# Altium schematic symbol library fader2_parts.SchLib: 112 symbols (part 2 of 2)
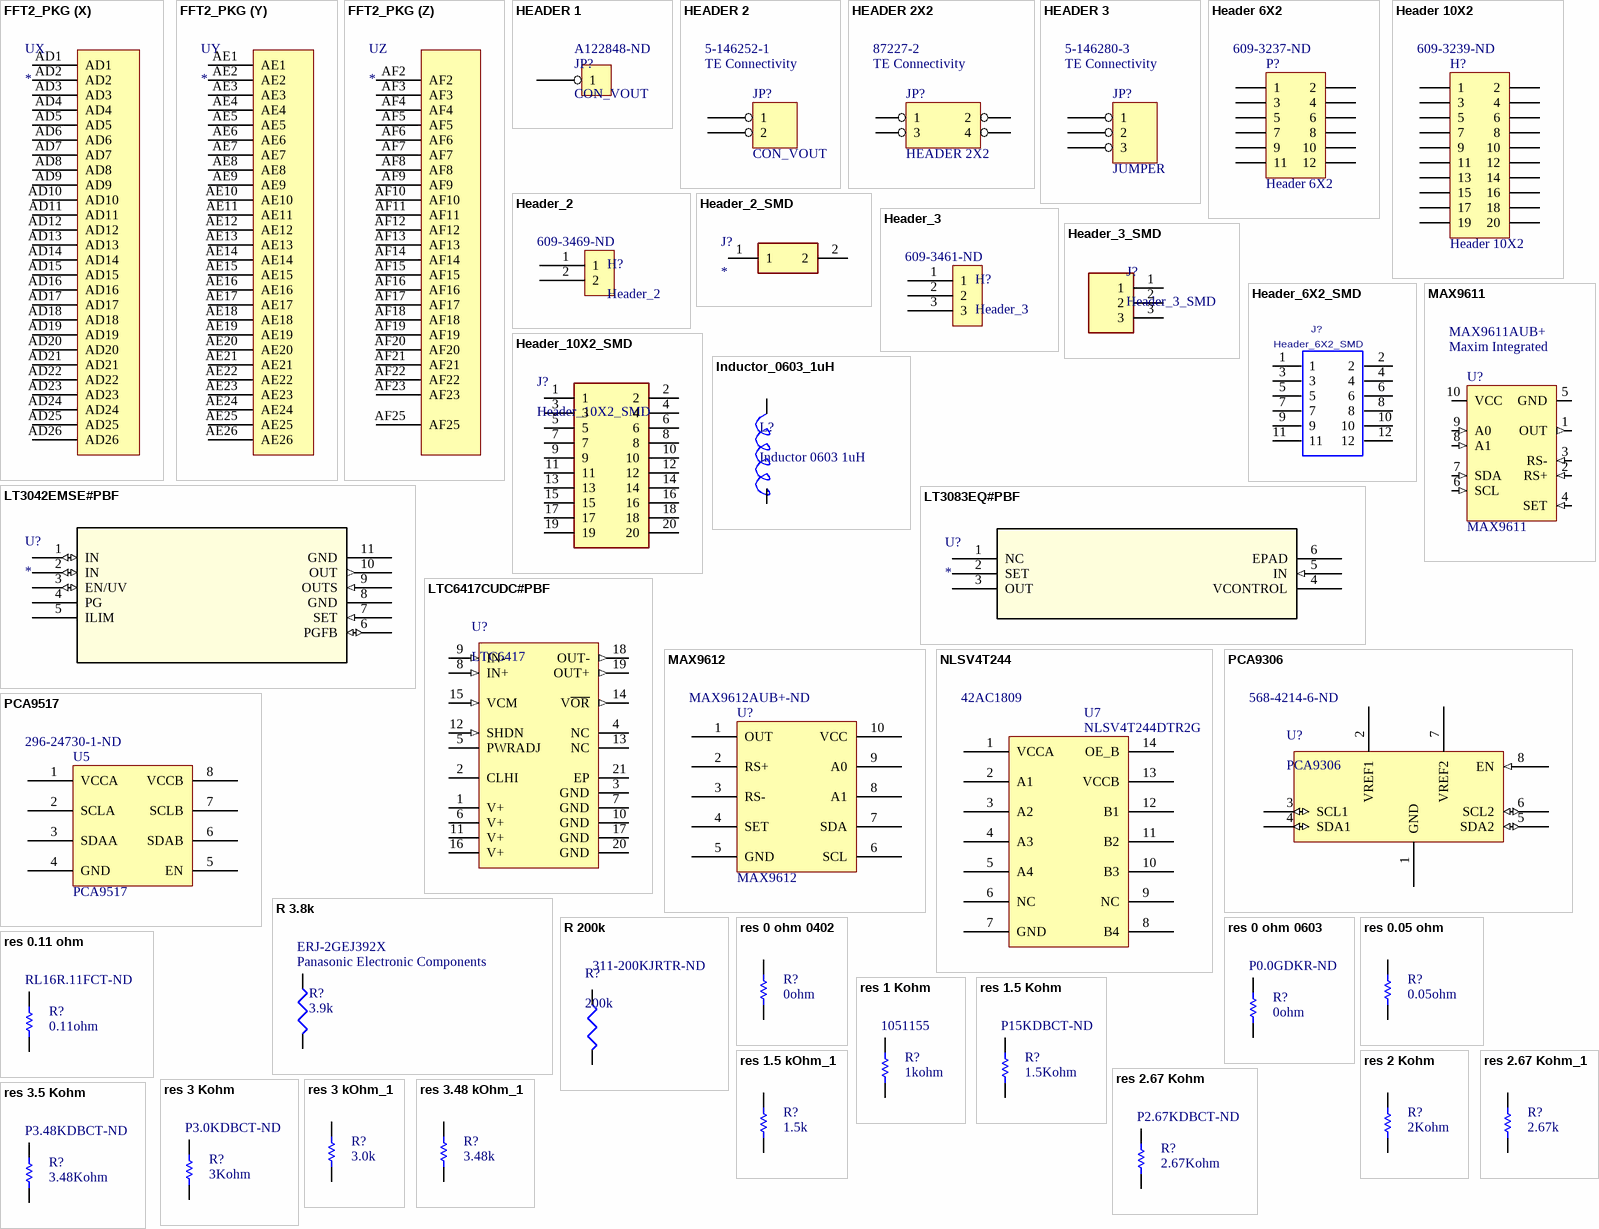
[diagram p9: symbols FFT2_PKG to res 3.48 kOhm_1]

## HEADER 2
designator JP?, comment CON_VOUT  Manufacturer: TE Connectivity  Manufacturer Part Number: 5-146252-1
CONN HEADR BRKWAY .100 2POS STR; Connector Type: Header, Unshrouded, Breakaway; Number of Positions: 2; Number of Positions Loaded: All; Pitch: 0.100" (2.54mm); Supplier 1: Digi-Key; RoHS: RoHS Compliant; Category: Connectors, Interconnects; Stock 1: 0; Pricing 1: 1=0.45, 10=0.421, 50=0.3068, 100=0.2948, 250=0.26472, 500=0.25268, 1000=0.21056, 2500=0.19251, 5000=0.18048 (USD); Packaging: Bulk; Contact Type: Male Pin; Number of Rows: 2; Row Spacing: 0.100" (2.54mm); Contact Mating Length: 0.318" (8.08mm); Mounting Type: Through Hole; Termination: Solder; Fastening Type: -; Features: -; Contact Finish: Gold; Contact Finish Thickness: 15µin (0.38µm); Color: Black; ComponentLink1URL: http://www.te.com/commerce/DocumentDelivery/DDEController?Action=srchrtrv&DocNm=146252&DocType=Customer+Drawing&DocLang=English; ComponentLink1Description: http://www.te.com/commerce/DocumentDelivery/DDEController?Action=srchrtrv&DocNm=146252&DocType=Customer+Drawing&DocLang=English; Supplier Part Number 1: A105225-ND
footprint SIP2
pins: 1, 2

## HEADER 2X2
designator JP?  Manufacturer: TE Connectivity  Manufacturer Part Number: 87227-2
CONN HEADER VERT .100 4POS 15AU; Connector Type: Header, Unshrouded; Number of Positions: 4; Number of Positions Loaded: All; Pitch: 0.100" (2.54mm); Supplier 1: Digi-Key; RoHS: RoHS Compliant; Category: Connectors, Interconnects; Stock 1: 1339; Pricing 1: 1=2.14, 10=1.938, 25=1.8196, 50=1.7406, 100=1.6615, 250=1.50324, 500=1.38456, 1000=1.18677, 2500=1.10765 (USD); Packaging: Bulk; Contact Type: Male Pin; Number of Rows: 2; Row Spacing: 0.100" (2.54mm); Contact Mating Length: 0.318" (8.08mm); Mounting Type: Through Hole; Termination: Solder; Fastening Type: -; Features: -; Contact Finish: Gold; Contact Finish Thickness: 15µin (0.38µm); Color: Black; ComponentLink1URL: http://www.te.com/commerce/DocumentDelivery/DDEController?Action=srchrtrv&DocNm=87227&DocType=Customer+Drawing&DocLang=English; ComponentLink1Description: http://www.te.com/commerce/DocumentDelivery/DDEController?Action=srchrtrv&DocNm=87227&DocType=Customer+Drawing&DocLang=English; Supplier Part Number 1: A26567-ND
footprint DPDT
pins: 1, 2, 3, 4

## HEADER 3
designator JP?, comment JUMPER  Manufacturer: TE Connectivity  Manufacturer Part Number: 5-146280-3
CONN HEADR BRKWAY .100 3POS STR; Connector Type: Header, Unshrouded, Breakaway; Number of Positions: 3; Number of Positions Loaded: All; Pitch: 0.100" (2.54mm); Supplier 1: Digi-Key; RoHS: RoHS Compliant; Category: Connectors, Interconnects; Stock 1: 6661; Pricing 1: 1=0.46, 10=0.436, 50=0.3172, 100=0.3049, 250=0.27376, 500=0.2613, 1000=0.21775, 2500=0.19909, 5000=0.18665 (USD); Packaging: Bulk; Contact Type: Male Pin; Number of Rows: 1; Row Spacing: -; Contact Mating Length: 0.230" (5.84mm); Mounting Type: Through Hole; Termination: Solder; Fastening Type: -; Features: -; Contact Finish: Gold; Contact Finish Thickness: 15µin (0.38µm); Color: Black; ComponentLink1URL: http://www.te.com/commerce/DocumentDelivery/DDEController?Action=srchrtrv&DocNm=146280&DocType=Customer+Drawing&DocLang=English; ComponentLink1Description: http://www.te.com/commerce/DocumentDelivery/DDEController?Action=srchrtrv&DocNm=146280&DocType=Customer+Drawing&DocLang=English; Supplier Part Number 1: 5-146280-3-ND
footprint SIP3
pins: 1, 2, 3

## Header 6X2
designator P?  Supplier Part Number 1: 609-3237-ND
Connector Header Vertical Dual Row, Through Hole 12 position 0.100" (2.54mm) Bergstik; Manufacturer: Amphenol FCI; Manufacturer ID: 67997-212HLF; Digikey ID: 609-3237-ND; Supplier 1: Digi-Key
footprint HDR2X6 (Connector; Header; 6x2 Position)
pins: 1, 2, 3, 4, 5, 6, 7, 8, 9, 10, 11, 12

## Header 10X2
designator H?  Supplier Part Number 1: 609-3239-ND
Connector Header Vertical Dual Row, Through Hole 20 position 0.100" (2.54mm) Bergstik; Manufacturer: Amphenol FCI; Manufacturer ID: 67997-220HLF; Digikey ID: 609-3239-ND; Supplier 1: Digi-Key
signal-integrity model Connector
footprint HDR2X10 (Connector; Header; 10x2 Position)
pins: 1, 2, 3, 4, 5, 6, 7, 8, 9, 10, 11, 12, 13, 14, 15, 16, 17, 18, 19, 20

## Header_2
designator H?  Supplier Part Number 1: 609-3469-ND
Connector Header Vertical, Through Hole 2 position 0.100" (2.54mm); Manufacturer: FCI; Manufacturer ID: 68001-202HLF; Digikey ID: 609-3469-ND; Supplier 1: Digi-Key
footprint HDR1X2 (Connector; Header; 2 Position)
pins: 1, 2

## Header_2_SMD
designator J?
Connector Header Vertical, SMD, 2 position 0.100" (2.54mm); Manufacturer_Name: SAMTEC; Manufacturer_Part_Number: TSM-102-01-S-SV; Datasheet Link: https://componentsearchengine.com/Datasheets/2/TSM-102-01-S-SV.pdf; Arrow Part Number: TSM-102-01-S-SV; Arrow Price/Stock: https://www.arrow.com/en/products/tsm-102-01-s-sv/samtec; Mouser Part Number: 200-TSM10201SSV; Mouser Price/Stock: https://www.mouser.co.uk/ProductDetail/Samtec/TSM-102-01-S-SV?qs=FESYatJ8odJNSemiJZ%2Fyzw%3D%3D; Supplier 1: Digi-Key; Supplier Part Number 1: SAM10783-ND
footprint HDR1X2_SMD_S
pins: 1, 2

## Header_3
designator H?  Supplier Part Number 1: 609-3461-ND
Connector Header Vertical, Through Hole 3 position 0.100" (2.54mm); Manufacturer: FCI; Manufacturer ID: 68000-103HLF; Digikey ID: 609-3461-ND; Supplier 1: Digi-Key
footprint HDR1X3 (Connector; Header; 3 Position)
pins: 1, 2, 3

## Header_3_SMD
designator J?
Connector Header Vertical, SMD, 3 position 0.100" (2.54mm); Manufacturer_Name: SAMTEC; Manufacturer_Part_Number: TSM-103-01-S-SV-P-TR; Datasheet Link: http://suddendocs.samtec.com/prints/tsm-1xx-xx-xxx-sv-xx-xxx-xx-mkt.pdf; Height: 11.17mm; Arrow Part Number: TSM-103-01-S-SV-P-TR; Arrow Price/Stock: https://www.arrow.com/en/products/tsm-103-01-s-sv-p-tr/samtec; Mouser Part Number: 200-TSM10301SSVPTR; Mouser Price/Stock: https://www.mouser.co.uk/ProductDetail/Samtec/TSM-103-01-S-SV-P-TR?qs=FESYatJ8odJI6Ns4akqicQ%3D%3D; Supplier 1: Newark; Supplier 2: Digi-Key; Supplier Part Number 1: 80K8300; Supplier Part Number 2: SAM13283CT-ND
footprint HDR1X3_SMD
pins: 1, 2, 3

## Header_6X2_SMD
designator J?
Connector Header Vertical Dual Row, SMD, 12 position 0.100" (2.54mm); MANUFACTURER: SAMTEC; PCB DECAL: TSM-106-XX-XXX-DV; CREATED: November 23, 2017 - Wendy Xin; Supplier 1: Digi-Key; Supplier Part Number 1: SAM10803-ND
footprint HDR2X6_SMD
pins: 1, 2, 3, 4, 5, 6, 7, 8, 9, 10, 11, 12

## Header_10X2_SMD
designator J?
Connector Header Vertical Dual Row, SMD, 20 position 0.100" (2.54mm); Manufacturer_Name: SAMTEC; Manufacturer_Part_Number: TSM-110-01-L-DV-P-TR; Datasheet Link: http://suddendocs.samtec.com/prints/tsm-1xx-xx-xxx-xx-x-xxx-x-mkt.pdf; Height: 9.9mm; Arrow Part Number: TSM-110-01-L-DV-P-TR; Arrow Price/Stock: https://www.arrow.com/en/products/tsm-110-01-l-dv-p-tr/samtec; Mouser Part Number: 200-TSM11001LDVPTR; Mouser Price/Stock: https://www.mouser.co.uk/ProductDetail/Samtec/TSM-110-01-L-DV-P-TR?qs=0lQeLiL1qyblXKkNLjNUWw%3D%3D; Supplier 1: Digi-Key; Supplier Part Number 1: SAM10819-ND
footprint HDR2X10_SMD
pins: 1, 2, 3, 4, 5, 6, 7, 8, 9, 10, 11, 12, 13, 14, 15, 16, 17, 18, 19, 20

## Inductor_0603_1uH
designator L?, comment Inductor 0603 1uH
Digi-Key:  587-2897-1-ND
footprint RES0603R (resistor 0603 reflow soldering)
pins: 1, 2

## LT3042EMSE#PBF
designator U?
Imported; Manufacturer_Part_Number: lt3042emse#pbf; Vendor: Linear Technology; Value: Value; Type: Type; RefDes: RefDes
footprint MSOP-10_MSE
pins: 1 IN (io), 2 IN (io), 3 EN/UV (io), 4 PG (power), 5 ILIM, 6 PGFB (io), 7 SET (in), 8 GND (power), 9 OUTS (in), 10 OUT (out), 11 GND (power)

## LT3083EQ#PBF
designator U?
Imported; Manufacturer_Part_Number: lt3083eq#pbf; Vendor: Linear Technology; Value: Value; Type: Type; RefDes: RefDes
footprint DDPAK-5_Q
pins: 1 NC, 2 SET, 3 OUT, 4 VCONTROL, 5 IN (in), 6 EPAD

## LTC6417CUDC#PBF
designator U?, comment LTC6417
Single Channel, Low Noise, High Linearity Differential Buffer / 16-Bit ADC Driver with Fast Clamp, 1600 MHz Typical GBW, 10000 V/us Typical SR, 4.75 to 5.25 V, 20-Pin QFN (UDC20), Commercial, Pb-Free; Manufacturer: Linear Technology; PartNumber: LTC6417CUDC#PBF; Channels (#): 1; GBW (MHz) Typical: 1600; Is (mA) Typical: 123; SR (V/us) Typical: 10000; Vos (mV) Typical: 0.1; Vs Max (V): 5.25; Vs Min (V): 4.75; PackageVersion: Rev Ø; PackageReference: LT-UDC-20; PackageDescription: 20-Lead Plastic QFN, Body 3 x 4 mm, Pitch 0.5 mm; Supplier 1: Digi-Key; Supplier Part Number 1: LTC6417CUDC#PBF-ND; Supplier 2: Farnell; Supplier Part Number 2: 2322431; Supplier 3: Newark; Supplier Part Number 3: 27W9503; Linear Technology Part Number: LTC6417; RoHS: Pb-Free; Type: DIFF; Mounting Technology: Surface Mount; ComponentLink1Description: Manufacturer URL; ComponentLink1URL: http://www.linear.com/; ComponentLink2Description: Datasheet; ComponentLink2URL: http://cds.linear.com/docs/en/datasheet/6417f.pdf; ComponentLink3Description: Package Specification; ComponentLink3URL: http://cds.linear.com/docs/en/packaging/QFN_20_05-08-1742.pdf; Digikey ID: LTC6417CUDC#PBF-ND; Manufacturer ID: LTC6417CUDC#PBF
footprint LT-UDC-20_N_NPV (QFN, 20-Leads, Body 4x3mm, Pitch 0.5mm, Thermal Pad 2.5x1.5mm, IPC Medium Density)
pins: 1 V+ (power) "Positive Power Supply. Typically 5V.Split supplies are possible as long as the voltage between V+ and GND is 4.75V to 5.25V. Bypass capacitors of 680Pf and 0.1uF as close to the part as possible should be used between the (See Datasheet)", 2 CLHI (power) "High Side Clamp Voltage. The voltage applied to the CLHI pin defines the upper voltage limit of the OUT+ and OUT- pins. This voltage should be set at least 300mV above the upper voltage range of the ADC. On a 5V supply, the (See Datasheet)", 3 GND (power) "Negative Power Supply. Normally tied to ground. All pins and the exposed pad must be tied to the same voltage. GND may be tied to a voltage other than ground as long as the voltage between V+ and GND is 4.75V to 5.25V. If (See Datasheet)", 4 NC "No Connection. These pins are not connected internally.", 5 PWRADJ (power) "Power Adjust Voltage. The voltage applied to this pin scales the bias current internal to the LTC6417. The PWRADJ pin will float to a 1.6V default voltage. PWRADJ has a Thevenin equivalent resistance of approximately 14.5k (See Datasheet)", 6 V+ (power) "Positive Power Supply. Typically 5V.Split supplies are possible as long as the voltage between V+ and GND is 4.75V to 5.25V. Bypass capacitors of 680Pf and 0.1uF as close to the part as possible should be used between the (See Datasheet)", 7 GND (power) "Negative Power Supply. Normally tied to ground. All pins and the exposed pad must be tied to the same voltage. GND may be tied to a voltage other than ground as long as the voltage between V+ and GND is 4.75V to 5.25V. If (See Datasheet)", 8 IN+ (in) "Non-inverting and inverting input pins of the buffer, respectively. These pins are high impedance, approximately 9.5k. If AC-coupled, these pins will self bias to the voltage applied to the VCM pin.", 9 IN- (in) "Non-inverting and inverting input pins of the buffer, respectively. These pins are high impedance, approximately 9.5k. If AC-coupled, these pins will self bias to the voltage applied to the VCM pin.", 10 GND (power) "Negative Power Supply. Normally tied to ground. All pins and the exposed pad must be tied to the same voltage. GND may be tied to a voltage other than ground as long as the voltage between V+ and GND is 4.75V to 5.25V. If (See Datasheet)", 11 V+ (power) "Positive Power Supply. Typically 5V.Split supplies are possible as long as the voltage between V+ and GND is 4.75V to 5.25V. Bypass capacitors of 680Pf and 0.1uF as close to the part as possible should be used between the (See Datasheet)", 12 SHDN (in) "This pin puts the LTC6417 in sleep mode when pulled high. If no voltage is applied to the SHDN pin, it floats down to the same potential as GND.", 13 NC "No Connection. These pins are not connected internally.", 14 V~{OR} (out) "Overrange Output. This pin, by default at 3.4V, will be pulled down to GND, when one or both input signals go beyond the minimum or maximum swing set by the CLHI and VCM pins.", 15 VCM (in) "This pin sets the output common mode voltage seen at OUT+ and OUT- by driving IN+ and IN- through a buffer with a high output resistance of 9.5k. The VCM pin has a Thevenin equivalent resistance of approximately 2.7k and can (See Datasheet)", 16 V+ (power) "Positive Power Supply. Typically 5V.Split supplies are possible as long as the voltage between V+ and GND is 4.75V to 5.25V. Bypass capacitors of 680Pf and 0.1uF as close to the part as possible should be used between the (See Datasheet)", 17 GND (power) "Negative Power Supply. Normally tied to ground. All pins and the exposed pad must be tied to the same voltage. GND may be tied to a voltage other than ground as long as the voltage between V+ and GND is 4.75V to 5.25V. If (See Datasheet)", 18 OUT- (out) "Outputs.", 19 OUT+ (out) "Outputs.", 20 GND (power) "Negative Power Supply. Normally tied to ground. All pins and the exposed pad must be tied to the same voltage. GND may be tied to a voltage other than ground as long as the voltage between V+ and GND is 4.75V to 5.25V. If (See Datasheet)", 21 EP (power) "Negative Power Supply. Normally tied to ground. All pins and the exposed pad must be tied to the same voltage. GND may be tied to a voltage other than ground as long as the voltage between V+ and GND is 4.75V to 5.25V. If (See Datasheet)"

## MAX9611
designator U?  Manufacturer: Maxim Integrated  Manufacturer Part Number: MAX9611AUB+
IC OPAMP CURR SENS 2.5MHZ 10UMAX; Amplifier Type: Current Sense; Number of Circuits: 1; -3db Bandwidth: 4MHz; Current - Input Bias: 1µA; Voltage - Input Offset: 100µV; Current - Supply: 1.6mA; Current - Output / Channel: 15mA; Voltage - Supply, Single/Dual (±): 2.7 V ~ 5.5 V; Supplier 1: Digi-Key; RoHS: RoHS Compliant; Category: Integrated Circuits (ICs); Stock 1: 394; Pricing 1: 1=2.68, 10=2.546, 25=2.34, 50=2.223, 100=1.8105 (USD); Packaging: Tube; Output Type: -; Slew Rate: -; Gain Bandwidth Product: 2.5MHz; Operating Temperature: -40°C ~ 125°C; Mounting Type: Surface Mount; Package / Case: 10-TFSOP, 10-MSOP (0.118", 3.00mm Width); Supplier Device Package: 10-uMAX; ComponentLink1URL: http://datasheets.maximintegrated.com/en/ds/MAX9611-MAX9612.pdf; ComponentLink1Description: http://datasheets.maximintegrated.com/en/ds/MAX9611-MAX9612.pdf; Supplier Part Number 1: MAX9611AUB+-ND
footprint TSSOP50P490-10AL (TSSOP, 10-Leads, Body 3x3mm, Pitch 0.5mm, IPC High Density)
pins: 1 OUT (out), 2 RS+ (in), 3 RS- (in), 4 SET (in), 5 GND (power), 6 SCL (in), 7 SDA (in), 8 A1 (in), 9 A0 (in), 10 VCC (power)

## MAX9612
designator U?  Supplier Part Number 1: MAX9612AUB+-ND
OpAmp ADC; Manufacturer: Maxim; Manufacturer ID: MAX9612AUB+; Digikey ID: MAX9612AUB+-ND; Supplier 1: Digi-Key
footprint MAX9612 (SOP, 10-Leads, Body 3x3mm, Pitch 0.5mm, IPC Medium Density)
pins: 1 OUT, 2 RS+, 3 RS-, 4 SET, 5 GND, 6 SCL, 7 SDA, 8 A1, 9 A0, 10 VCC

## NLSV4T244
designator U7, comment NLSV4T244DTR2G  Supplier Part Number 1: 42AC1809
Voltage Level Translator Unidirectional 1 Circuit 4 Channel 14-TSSOP; Manufacturer: ON Semiconductor; Voltage Range: 0.9V-4.5V; Num. Channels: 4; Manufacturer ID: NLSV4T244DTR2G; Digikey ID: NLSV4T244DTR2GOSCT-ND; Package: TSSOP−14; Supplier 1: Newark
footprint 948G-01 (Shrink Small Outline; 14 Leads; Body Width 4.4 mm; Pitch 0.65 mm)
pins: 1 VCCA, 2 A1, 3 A2, 4 A3, 5 A4, 6 NC, 7 GND, 8 B4, 9 NC, 10 B3, 11 B2, 12 B1, 13 VCCB, 14 OE_B

## PCA9306
designator U?  Supplier Part Number 1: 568-4214-6-ND
I2C level shifter; Supplier 1: Digi-Key
footprint TSSOP-08 (TSOP, 8-Leads, Body 3x3mm, Pitch 0.65mm, IPC Low Density)
pins: 1 GND (power), 2 VREF1 (power), 3 SCL1 (io), 4 SDA1 (io), 5 SDA2 (io), 6 SCL2 (io), 7 VREF2 (power), 8 EN (in)

## PCA9517
designator U5  Supplier Part Number 1: 296-24730-1-ND
I2C Repeater, Buffer, ReDriver 2 Channel 400kHz 8-VSSOP; Manufacturer: TI; Manufacturer ID: PCA9517DGKR; Voltage Range B: 2.7V-5.5V; Voltage Range A: 0.9V-5.5V; Digikey ID: 296-24730-1-ND; Package: 8-VSSOP; Supplier 1: Digi-Key
footprint PCA9517 (VSSOP, 8-Leads, Body 3x3mm, Pitch 0.65mm)
pins: 1 VCCA, 2 SCLA, 3 SDAA, 4 GND, 5 EN, 6 SDAB, 7 SCLB, 8 VCCB

## R 3.8k
designator R?, comment 3.9k  Manufacturer: Panasonic Electronic Components  Manufacturer Part Number: ERJ-2GEJ392X
RES 3.9K OHM 1/10W 5% 0402 SMD; Power (Watts): 0.1W, 1/10W; Temperature Coefficient: ±200ppm/°C; Supplier 1: Digi-Key; Supplier Part Number 1: P3.9KJCT-ND; RoHS: RoHS Compliant; Category: Resistors; Stock 1: 67949; Pricing 1: 1=0.1, 50=0.0172, 100=0.0131, 250=0.00976, 500=0.0072, 1000=0.0048, 5000=0.00338 (USD); Packaging: Cut Tape (CT); Resistance (Ohms): 3.9k; Tolerance: ±5%; Composition: Thick Film; Features: -; Package / Case: 0402 (1005 Metric); Supplier Device Package: 0402; Size / Dimension: 0.039" L x 0.020" W (1.00mm x 0.50mm); Height: 0.016" (0.40mm); Number of Terminations: 2; ComponentLink1URL: http://industrial.panasonic.com/www-cgi/jvcr13pz.cgi?E+PZ+3+AOA0001+ERJ2GEJ392X+7+WW; ComponentLink1Description: http://industrial.panasonic.com/www-cgi/jvcr13pz.cgi?E+PZ+3+AOA0001+ERJ2GEJ392X+7+WW
footprint 0402
pins: 1, 2

## R 200k
designator R?, comment 200k  Supplier Part Number 1: 311-200KJRTR-ND
RES 200K OHM 0402; Supplier 1: Digi-Key
footprint 0402
pins: 1, 2

## res 0 ohm 0402
designator R?, comment 0ohm
Manufacturer: Panasonic; Manufacturer ID: ERJ-2GE0R00X; Digikey ID: P0.0JCT-ND; Package: 0402
footprint 0402
pins: 1 TOP, 2 BOT

## res 0 ohm 0603
designator R?, comment 0ohm  Supplier Part Number 1: P0.0GDKR-ND
RES SMD 0 OHM JUMPER 1/10W 0603; Manufacturer: Panasonic; Manufacturer ID: ERJ-3GEY0R00V; Digikey ID: P0.0GCT-ND; Package: 0603; Supplier 1: Digi-Key
footprint RES_0603
pins: 1 TOP, 2 BOT

## res 0.05 ohm
designator R?, comment 0.05ohm
0.33W -> 2.5A DC current; Manufacturer: Panasonic; Manufacturer ID: ERJ-3BWFR051V; Digikey ID: P17473CT-ND; Package: 0603
footprint 0603
pins: 1 TOP, 2 BOT

## res 0.11 ohm
designator R?, comment 0.11ohm  Supplier Part Number 1: RL16R.11FCT-ND
RES 0.11 OHM 1% 1/2W 1206; Manufacturer: Susumu; Manufacturer ID: RL1632R-R110-F; Digikey ID: RL16R.11FCT-ND; Package: 1206; Supplier 1: Digi-Key
footprint RES_1206
pins: 1 TOP, 2 BOT

## res 1 Kohm
designator R?, comment 1kohm  Supplier Part Number 1: 1051155
RES SMD 1K OHM 1% 1/10W 0603; Manufacturer: Panasonic; Manufacturer ID: ERJ-3EKF1001V; Digikey ID: P1.00KHCT-ND; Package: 0603; Supplier 1: RSComponents
footprint RES_0603
pins: 1 TOP, 2 BOT

## res 1.5 Kohm
designator R?, comment 1.5Kohm  Supplier Part Number 1: P15KDBCT-ND
RES SMD 1.5K OHM 0.1% 1/10W 0603; Manufacturer: Panasonic; Manufacturer ID: ERA-3AEB152V; Digikey ID: P1.5KDBCT-ND; Package: 0603; Supplier 1: Digi-Key
footprint RES_0603
pins: 1 TOP, 2 BOT

## res 1.5 kOhm_1
designator R?, comment 1.5k
RES SMD 1.5K OHM 1% 1/10W 0603; Package: 0603; Supplier 1: Digi-Key; Supplier 2: Arrow; Supplier Part Number 2: CRCW06031K50FKEA; Supplier Part Number 1: 311-1.50KHRCT-ND
footprint RES_0603
pins: 1 TOP, 2 BOT

## res 2 Kohm
designator R?, comment 2Kohm
Manufacturer: Panasonic; Manufacturer ID: ERA-3AEB202V; Digikey ID: P2.0KDBCT-ND; Package: 0603
footprint 0603
pins: 1 TOP, 2 BOT

## res 2.67 Kohm
designator R?, comment 2.67Kohm  Supplier Part Number 1: P2.67KDBCT-ND
RES SMD 2.67kOHM 0.1% 1/10W 0603; Manufacturer: Panasonic; Manufacturer ID: ERA-3AEB2671V; Digikey ID: P2.67KDBCT-ND; Package: 0603; Supplier 1: Digi-Key
footprint RES_0603
pins: 1 TOP, 2 BOT

## res 2.67 Kohm_1
designator R?, comment 2.67k
RES SMD 2.67kOHM 1% 1/10W 0603; Package: 0603; Supplier 1: Digi-Key; Supplier 2: Digi-Key; Supplier Part Number 1: 541-2.67KHCT-ND; Supplier Part Number 2: 311-2.67KHRCT-ND
footprint RES_0603
pins: 1 TOP, 2 BOT

## res 3 Kohm
designator R?, comment 3Kohm  Supplier Part Number 1: P3.0KDBCT-ND
RES SMD 3k OHM 0.1% 1/10W 0603; Manufacturer: Panasonic; Manufacturer ID: ERA-3AEB302V; Digikey ID: P3.0KDBCT-ND; Package: 0603; Supplier 1: Digi-Key
footprint RES_0603
pins: 1 TOP, 2 BOT

## res 3 kOhm_1
designator R?, comment 3.0k
RES SMD 3k OHM 1% 1/10W 0603; Package: 0603; Supplier 1: Digi-Key; Supplier 2: Digi-Key; Supplier Part Number 1: 541-3.00KHCT-ND; Supplier Part Number 2: 311-3.00KHRCT-ND
footprint RES_0603
pins: 1 TOP, 2 BOT

## res 3.5 Kohm
designator R?, comment 3.48Kohm  Supplier Part Number 1: P3.48KDBCT-ND
RES SMD 3.48kOHM 0.1% 1/10W 0603; Manufacturer: Panasonic; Manufacturer ID: ERA-3AEB3481V; Digikey ID: P3.48KDBCT-ND; Package: 0603; Supplier 1: Digi-Key
footprint RES_0603
pins: 1 TOP, 2 BOT

## res 3.48 kOhm_1
designator R?, comment 3.48k
RES SMD 3.48kOHM 1% 1/10W 0603; Package: 0603; Supplier 1: Digi-Key; Supplier 2: Digi-Key; Supplier Part Number 1: 311-3.48KHRCT-ND; Supplier Part Number 2: 541-3.48KHCT-ND
footprint RES_0603
pins: 1 TOP, 2 BOT

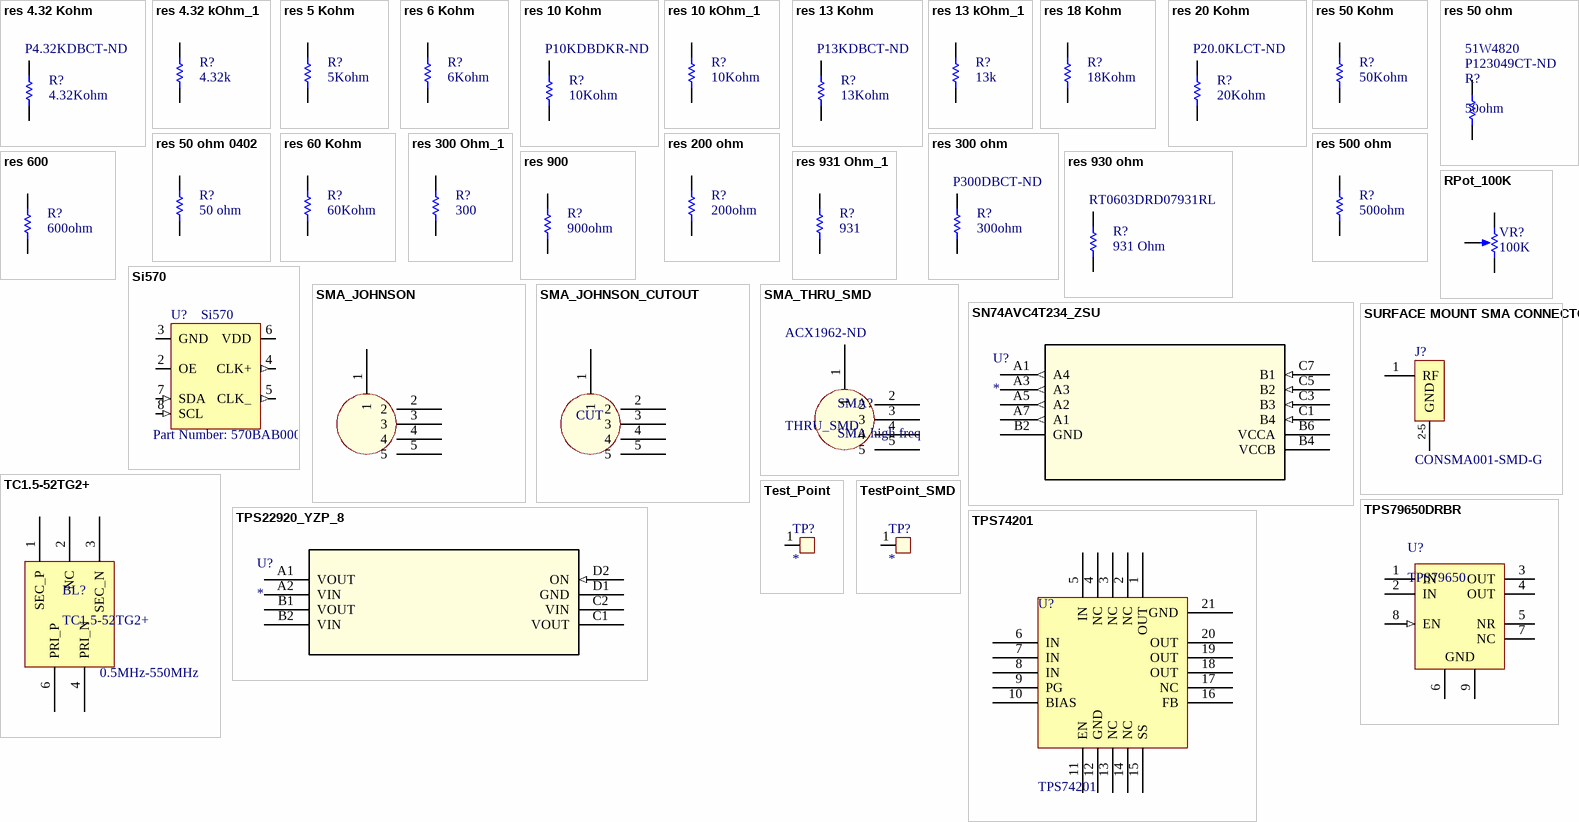
[diagram p8: symbols res 4.32 Kohm to TPS79650DRBR]

## res 4.32 Kohm
designator R?, comment 4.32Kohm  Supplier Part Number 1: P4.32KDBCT-ND
RES SMD 4.32kOHM 0.1% 1/10W 0603; Manufacturer: Panasonic; Manufacturer ID: ERA-3AEB4321V; Digikey ID: P4.32KDBCT-ND; Package: 0603; Supplier 1: Digi-Key
footprint RES_0603
pins: 1 TOP, 2 BOT

## res 4.32 kOhm_1
designator R?, comment 4.32k
RES SMD 4.32kOHM 1% 1/10W 0603; Package: 0603; Supplier 1: Digi-Key; Supplier 2: Digi-Key; Supplier Part Number 1: 311-4.32KHRCT-ND; Supplier Part Number 2: 541-4.32KHCT-ND
footprint RES_0603
pins: 1 TOP, 2 BOT

## res 5 Kohm
designator R?, comment 5Kohm
Manufacturer: Panasonic; Manufacturer ID: ERA-3AEB4991V; Digikey ID: P4.99KDBCT-ND; Package: 0603
footprint 0603
pins: 1 TOP, 2 BOT

## res 6 Kohm
designator R?, comment 6Kohm
Manufacturer: Panasonic; Manufacturer ID: ERA-3AEB6041V; Digikey ID: P6.04KDBCT-ND; Package: 0603
footprint 0603
pins: 1 TOP, 2 BOT

## res 10 Kohm
designator R?, comment 10Kohm  Supplier Part Number 1: P10KDBDKR-ND
RES SMD 10k OHM 0.1% 1/10W 0603; Manufacturer: Panasonic; Manufacturer ID: ERA-3AEB103V; Digikey ID: P10KDBCT-ND; Package: 0603; Supplier 1: Digi-Key
footprint RES_0603
pins: 1 TOP, 2 BOT

## res 10 kOhm_1
designator R?, comment 10Kohm
RES SMD 10k OHM 1% 1/10W 0603; Package: 0603; Supplier 1: Digi-Key; Supplier 2: Digi-Key; Supplier Part Number 1: 311-10.0KHRDKR-ND; Supplier Part Number 2: 541-10.0KHCT-ND
footprint RES_0603
pins: 1 TOP, 2 BOT

## res 13 Kohm
designator R?, comment 13Kohm  Supplier Part Number 1: P13KDBCT-ND
RES SMD 13k OHM 0.1% 1/10W 0603; Manufacturer: Panasonic; Manufacturer ID: ERA-3AEB133V; Digikey ID: P13KDBCT-ND; Package: 0603; Supplier 1: Digi-Key
footprint RES_0603
pins: 1 TOP, 2 BOT

## res 13 kOhm_1
designator R?, comment 13k
RES SMD 13k OHM 1% 1/10W 0603; Package: 0603; Supplier 1: Digi-Key; Supplier 2: Digi-Key; Supplier Part Number 1: 311-13.0KHRCT-ND; Supplier Part Number 2: 541-13.0KHCT-ND
footprint RES_0603
pins: 1 TOP, 2 BOT

## res 18 Kohm
designator R?, comment 18Kohm
Package: 0603
footprint 0603
pins: 1 TOP, 2 BOT

## res 20 Kohm
designator R?, comment 20Kohm  Supplier Part Number 1: P20.0KLCT-ND
RES SMD 20k OHM 1% 1/10W 0402; Manufacturer: Panasonic; Manufacturer ID: ERJ-2RKF2002X; Digikey ID: P20.0KLCT-ND; Package: 0402; Supplier 1: Digi-Key
footprint RES_0402
pins: 1 TOP, 2 BOT

## res 50 Kohm
designator R?, comment 50Kohm
Manufacturer: Panasonic; Manufacturer ID: ERA-3AEB4992V; Digikey ID: P49.9KDBCT-ND; Package: 0603
footprint 0603
pins: 1 TOP, 2 BOT

## res 50 ohm
designator R?, comment 50ohm  Supplier Part Number 1: P123049CT-ND  Supplier Part Number 2: 51W4820
RES SMD 49.9 OHM 1% 1/20W 0201; Manufacturer: Panasonic; Manufacturer ID: ERJ-1GEF49R9C; Digikey ID: P49.9ABCT-ND; Value: 50ohm; Package: 0201; Supplier 1: Digi-Key; Supplier 2: Newark
footprint RES_0201
pins: 1 TOP, 2 BOT

## res 50 ohm 0402
designator R?, comment 50 ohm
RES SMD 50 OHM 0.1% 1/20W 0402; Manufacturer: Vishay; Manufacturer ID: FC0402E50R0BST1; Package: 0402; Supplier 1: Digi-Key; Supplier Part Number 1: FC0402-50BWCT-ND; Resistance: 50 Ohm
footprint RES_0402
pins: 1 TOP, 2 BOT

## res 60 Kohm
designator R?, comment 60Kohm
Manufacturer: Panasonic; Manufacturer ID: ERA-3AEB6042V; Digikey ID: P60.4KDBCT-ND; Package: 0603
footprint 0603
pins: 1 TOP, 2 BOT

## res 200 ohm
designator R?, comment 200ohm
Package: 0603
footprint 0603
pins: 1 TOP, 2 BOT

## res 300 ohm
designator R?, comment 300ohm  Supplier Part Number 1: P300DBCT-ND
RES SMD 300 OHM 0.1% 1/10W 0603; Manufacturer: Panasonic; Manufacturer ID: ERA-3AEB301V; Digikey ID: P300DBCT-ND; Package: 0603; Supplier 1: Digi-Key
footprint RES_0603
pins: 1 TOP, 2 BOT

## res 300 Ohm_1
designator R?, comment 300
RES SMD 300 OHM 1% 1/10W 0603; Package: 0603; Supplier 1: Digi-Key; Supplier 2: Digi-Key; Supplier Part Number 1: 311-300HRCT-ND; Supplier Part Number 2: 541-300HCT-ND
footprint RES_0603
pins: 1 TOP, 2 BOT

## res 500 ohm
designator R?, comment 500ohm
Package: 0603
footprint 0603
pins: 1 TOP, 2 BOT

## res 600
designator R?, comment 600ohm
Package: 0603
footprint 0603
pins: 1 TOP, 2 BOT

## res 900
designator R?, comment 900ohm
footprint 1206
pins: 1 TOP, 2 BOT

## res 930 ohm
designator R?, comment 931 Ohm  Supplier Part Number 1: RT0603DRD07931RL
RES SMD 931 OHM 0.5% 1/10W 0603; Manufacturer: Yageo; Manufacturer ID: RT0603DRD07931RL; Digikey ID: 311-2391-1-ND; Package: 0603; Supplier 1: Avnet
footprint RES_0603
pins: 1 TOP, 2 BOT

## res 931 Ohm_1
designator R?, comment 931
RES SMD 931 OHM 1% 1/10W 0603; Package: 0603; Supplier 1: Digi-Key; Supplier 2: Digi-Key; Supplier Part Number 1: 311-931HRCT-ND; Supplier Part Number 2: 541-931HCT-ND
footprint RES_0603
pins: 1 TOP, 2 BOT

## RPot_100K
designator VR?, comment 100K
Potentiometer; Manufacturer: Bourns; Manufacturer ID: 3214X-1-104E; Digikey ID: 3214X-1-104ECT-ND
footprint POT_3214_Top (5 turn Trimpot, 3214, Top adjust)
pins: 1 TOP, 2 TAP, 3 BOT
1 alternate drawing of the same symbol

## Si570
designator U?  Part Number: 570BAB000544DG
10-1400MHz I2C Clock Oscillator
footprint SI570
pins: 2 OE, 3 GND (power), 4 CLK+ (out), 5 CLK_ (out), 6 VDD (power), 7 SDA (in), 8 SCL (in)

## SMA_JOHNSON
designator SMA?, comment SMA low freq
Johnson SMA; Manufacturer: Molex; Manufacturer ID: 0733910060; Digikey ID: WM5543-ND
footprint THRU_SMA_JOHNSON
pins: 1, 2, 3, 4, 5

## SMA_JOHNSON_CUTOUT
designator SMA?, comment SMA mid freq
Johnson SMA With Cutout; Manufacturer: Molex; Manufacturer ID: 0733910060; Digikey ID: WM5543-ND
footprint THRU_SMA_JOHNSON_CUTOUT
pins: 1, 2, 3, 4, 5
text: CUT

## SMA_THRU_SMD
designator SMA?, comment SMA high freq  Supplier Part Number 1: ACX1962-ND
SMA Connector Jack, Female Socket 50Ohm Surface Mount center pin, Through Hole Solder; Manufacturer: Amphenol; Manufacturer ID: 132134-15; Digikey ID: ACX1962-ND; Supplier 1: Digi-Key
footprint THRU_SMD_SMA
pins: 1, 2, 3, 4, 5
text: THRU_SMD

## SN74AVC4T234_ZSU
designator U?
Imported; Manufacturer: Texas Instruments; GENERIC_PART_NUMBER: SN74AVC4T234; Manufacturer_Part_Number: sn74avc4t234_zsu_11; INDUSTRY_STD_PKG_TYPE: uCSP; FAMILY_NAME: DIRECTION CONTROL DUAL SUPPLY TRANSLATOR; PIN_COUNT: 11; PACKAGE_DESIGNATOR: ZSU; Datasheet URL: http://www.ti.com/lit/gpn/SN74AVC4T234; Vendor: Texas Instruments; RefDes: RefDes; Type: DEV; Value: Value
footprint ZSU11
pins: A1 A4 (out), A3 (out), A5 A2 (out), A7 A1 (out), B2 GND (power), B4 VCCB (power), B6 VCCA (power), C1 B4 (in), C3 B3 (in), C5 B2 (in), C7 B1 (in)

## SURFACE MOUNT SMA CONNECTOR
designator J?, comment CONSMA001-SMD-G
SMD SMA CONNECTOR; Manufacturer 1: Linx Technologies; Manufacturer Part Number 1: CONSMA001-SMD-G; Supplier Part Number 1: CONSMA001-SMD-ND; Supplier 1: Digi-Key; Manufacturer Part Number 2: CONSMA002-SMD; Supplier Part Number 2: CONSMA002-SMD-ND
footprint CON-SMA-SMD (Surface Mount SMA Connector)
pins: 1 RF, 2 GND, 3 GND, 4 GND, 5 GND
text: 2-5

## TC1.5-52TG2+
designator BL?  Frequency Range: 0.5MHz-550MHz
Balun, 1:1.5 CORE & WIRE Transformer, 0.5 - 550 MHz, 50Ω; Manufacturer: Mini-Circuits; Manufacturer ID: TC1.5-52TG2+
footprint AT224-3
pins: 1 SEC_P, 2 NC, 3 SEC_N, 4 PRI_N, 6 PRI_P

## Test_Point
designator TP?
Test Point, through-hole, 40mil pad diameter, 20mil hole diameter
footprint Test_Point
pins: 1 TP

## TestPoint_SMD
designator TP?
Test Point, SMD 1mm x 1.8mm, 1.15mm high.; Supplier 1: Digi-Key; Supplier Part Number 1: 952-2665-1-ND
footprint TestPoint_SMD (Harwin S2761-46R)
pins: 1 TP

## TPS22920_YZP_8
designator U?
Imported; Manufacturer_Part_Number: tps22920_yzp_8; GENERIC_PART_NUMBER: TPS22920; Vendor: Texas Instruments; PACKAGE_DESIGNATOR: YZP; PIN_COUNT: 8; FAMILY_NAME: LOAD SWITCH; INDUSTRY_STD_PKG_TYPE: DSBGA; Manufacturer: Texas Instruments; Datasheet_URL: http://www.ti.com/lit/gpn/TPS22920; Value: Value; Type: Type; RefDes: RefDes
footprint YZP8
pins: A1 VOUT, A2 VIN, B1 VOUT, B2 VIN, C1 VOUT, C2 VIN, D1 GND (power), D2 ON (in)

## TPS74201
designator U?
Linear Positive Voltage Regulator IC, Adjustable Voltage, 1 Output 1.5A 20-VQFN (5x5); Manufacturer: TI; Manufacturer ID: TPS74201RGWR; Output Voltage: 0.8V-3.6V; Dropout Voltage: 55mV @ 1.5A; Input Voltage: 0.86V-5.5V; Digikey ID: 296-19890-1-ND; Output Current: 1.5A; Supplier 1: Digi-Key; Supplier Part Number 1: 296-19890-1-ND
footprint TPS74201_NPV (QFN, 20-Leads, Body 5x5mm, Pitch 0.65mm, Thermal Pad 3.4x3.4mm, IPC Medium Density, No Plated Vias.)
pins: 1 OUT, 2 NC, 3 NC, 4 NC, 5 IN, 6 IN, 7 IN, 8 IN, 9 PG, 10 BIAS, 11 EN, 12 GND, 13 NC, 14 NC, 15 SS, 16 FB, 17 NC, 18 OUT, 19 OUT, 20 OUT, 21 GND

## TPS79650DRBR
designator U?, comment TPS79650
Single Output High PSRR LDO, 1 A, Fixed 5 V Output, 2.7 to 5.5 V Input, 8-pin SON (DRB), -40 to 125 degC, Green (RoHS & no Sb/Br); Manufacturer: Texas Instruments; PartNumber: TPS79650DRBR; Accuracy(%): 2; Fixed Output Options(V): 5; Iout(Max)(A): 1; Iq(Typ)(mA): 0.26; SubFamily: Single Channel LDO; Vdo(Typ)(mV): 200; Vin(Max)(V): 5.5; Vin(Min)(V): 2.7; DatasheetVersion: SLVS351N; PackageVersion: 4203482-2/K; PackageReference: DRB8-2400X1650TP; PackageDescription: 8-Pin Plastic Small Outline, Body 3 x 3 mm, Pitch 0.65 mm; Supplier 1: Digi-Key; Supplier Part Number 1: 296-21352-2-ND; Supplier 2: Digi-Key; Supplier Part Number 2: 296-21352-1-ND; Supplier 3: Digi-Key; Supplier Part Number 3: 296-21352-6-ND; Supplier 4: Newark; Supplier Part Number 4: 22M1831; Supplier 5: Mouser; Supplier Part Number 5: 595-TPS79650DRBR; Eco-Plan: Green (RoHS & no Sb/Br); Vout Adj(Max)(V): 5; Vout Adj(Min)(V): 5; Mounting Technology: Surface Mount; ComponentLink1Description: Manufacturer URL; ComponentLink1URL: http://www.ti.com/; ComponentLink2Description: Datasheet; ComponentLink2URL: http://www.ti.com/general/docs/lit/getliterature.tsp?genericPartNumber=TPS79650&fileType=pdf; ComponentLink3Description: Package Specification; ComponentLink3URL: http://www.ti.com/litv/pdf/mpds118h; Digikey ID: 296-21352-1-ND; Manufacturer ID: TPS79650DRBR
footprint TI-DRB8-2400X1650TP_V (SON, 8-Leads, Body 3x3mm, Pitch 0.65mm, Thermal Pad 2.4x1.65mm)
pins: 1 IN (power) "Unregulated input to the device.", 2 IN (power) "Unregulated input to the device.", 3 OUT (power) "Output of the regulator.", 4 OUT (power) "Output of the regulator.", 5 NR "Connecting an external capacitor to this pin bypasses noise generated by the internal bandgap. This improves power-supply rejection and reduces output noise.", 6 GND (power) "Regulator ground", 7 NC "No connect", 8 EN (in) "Driving the enable pin (EN) high turns on the regulator. Driving this pin low puts the regulator into shutdown mode. EN can be connected to IN if not used.", 9 GND (power) "Regulator ground"